# EAGLE library part NEO-7* (library U-Blox)
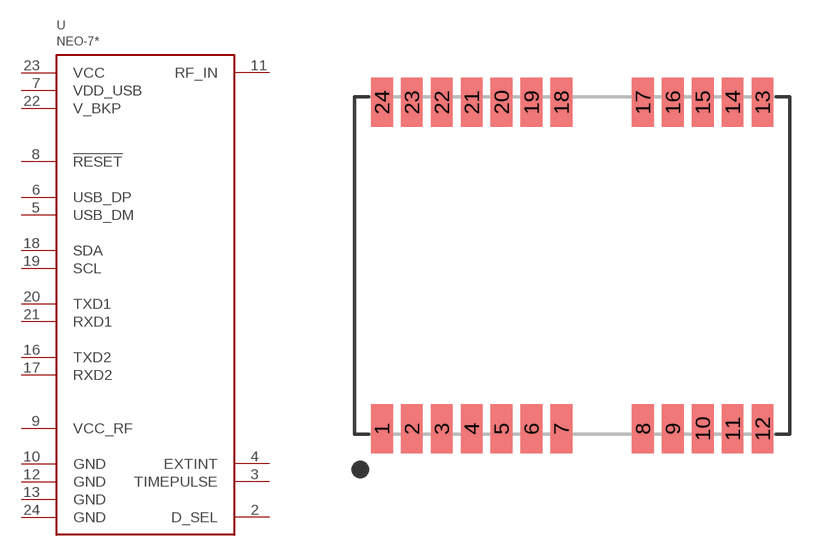
[diagram p0: symbol with the pads of NEO-6/7; footprint NEO-6/7]

Designator prefix U

## NEO-7M, NEO-7N  [NEO-6/7]
2  D_SEL
3  TIMEPULSE
4  EXTINT
5  USB_DM
6  USB_DP
7  VDD_USB
8  !RESET
9  VCC_RF
10  GND
11  RF_IN
12  GND
13  GND
16  TXD2
17  RXD2
18  SDA
19  SCL
20  TXD1
21  RXD1
22  V_BKP
23  VCC
24  GND

## Footprint NEO-6/7 (pad centres in mm)
smd 0.8 x 1.8: 1 -7,-6; 2 -5.9,-6; 3 -4.8,-6; 4 -3.7,-6; 5 -2.6,-6; 6 -1.5,-6; 7 -0.4,-6; 8 2.6,-6; 9 3.7,-6; 10 4.8,-6; 11 5.9,-6; 12 7,-6; 13 7,6; 14 5.9,6; 15 4.8,6; 16 3.7,6; 17 2.6,6; 18 -0.4,6; 19 -1.5,6; 20 -2.6,6; 21 -3.7,6; 22 -4.8,6; 23 -5.9,6; 24 -7,6